# Altium footprint library TQFP-144.PcbLib: 1 footprints
Each footprint in its own frame and in the unit in brackets; x right, y up, seen from the top. Pads: shape width x height; smd on the part's side, far side on the other; paste and mask are expansions set on the pad; w line width, h text height; cw(c..) or ccw(c..) is an arc to the next point about the centre after c.
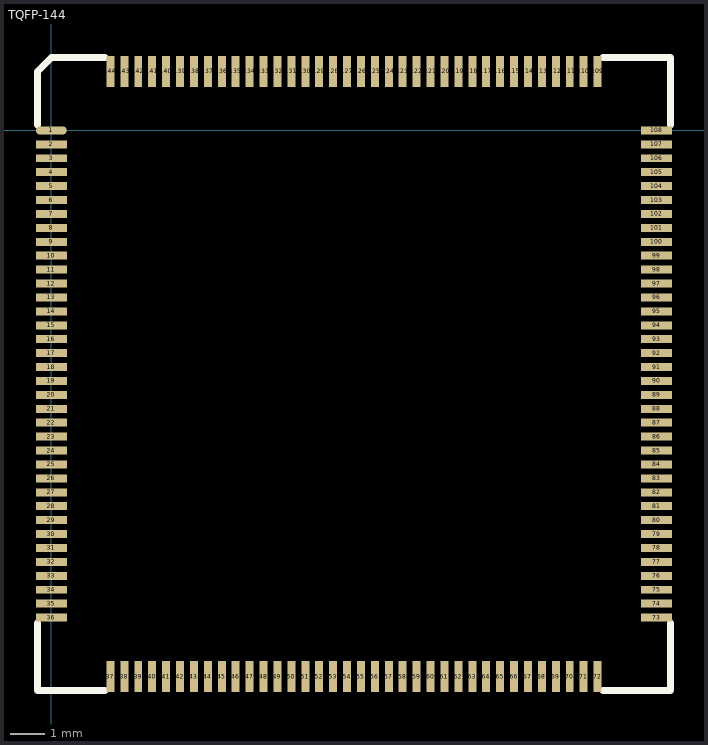
[diagram p0: the footprint, top view; thin cyan lines are the x and y axes]

## TQFP-144 [mil]
pads (144):
  oval 35x9 smd: 1(0,0)
  rect 35x9 smd: 2(0,-15.75) 3(0,-31.5) 4(0,-47.24) 5(0,-62.99) 6(0,-78.74) 7(0,-94.49) 8(0,-110.24) 9(0,-125.98) 10(0,-141.73) 11(0,-157.48) 12(0,-173.23) 13(0,-188.98) 14(0,-204.72) 15(0,-220.47) 16(0,-236.22) 17(0,-251.97) 18(0,-267.72) 19(0,-283.46) 20(0,-299.21) 21(0,-314.96) 22(0,-330.71) 23(0,-346.46) 24(0,-362.2) 25(0,-377.95) 26(0,-393.7) 27(0,-409.45) 28(0,-425.2) 29(0,-440.94) 30(0,-456.69) 31(0,-472.44) 32(0,-488.19) 33(0,-503.94) 34(0,-519.68) 35(0,-535.43) 36(0,-551.18) 73(685.04,-551.18) 74(685.04,-535.43) 75(685.04,-519.68) 76(685.04,-503.94) 77(685.04,-488.19) 78(685.04,-472.44) 79(685.04,-456.69) 80(685.04,-440.94) 81(685.04,-425.2) 82(685.04,-409.45) 83(685.04,-393.7) 84(685.04,-377.95) 85(685.04,-362.2) 86(685.04,-346.46) 87(685.04,-330.71) 88(685.04,-314.96) 89(685.04,-299.21) 90(685.04,-283.46) 91(685.04,-267.72) 92(685.04,-251.97) 93(685.04,-236.22) 94(685.04,-220.47) 95(685.04,-204.72) 96(685.04,-188.98) 97(685.04,-173.23) 98(685.04,-157.48) 99(685.04,-141.73) 100(685.04,-125.98) 101(685.04,-110.24) 102(685.04,-94.49) 103(685.04,-78.74) 104(685.04,-62.99) 105(685.04,-47.24) 106(685.04,-31.5) 107(685.04,-15.75) 108(685.04,0)
  rect 9x35 smd: 37(66.93,-618.11) 38(82.68,-618.11) 39(98.43,-618.11) 40(114.17,-618.11) 41(129.92,-618.11) 42(145.67,-618.11) 43(161.42,-618.11) 44(177.17,-618.11) 45(192.91,-618.11) 46(208.66,-618.11) 47(224.41,-618.11) 48(240.16,-618.11) 49(255.91,-618.11) 50(271.65,-618.11) 51(287.4,-618.11) 52(303.15,-618.11) 53(318.9,-618.11) 54(334.65,-618.11) 55(350.39,-618.11) 56(366.14,-618.11) 57(381.89,-618.11) 58(397.64,-618.11) 59(413.39,-618.11) 60(429.13,-618.11) 61(444.88,-618.11) 62(460.63,-618.11) 63(476.38,-618.11) 64(492.13,-618.11) 65(507.87,-618.11) 66(523.62,-618.11) 67(539.37,-618.11) 68(555.12,-618.11) 69(570.87,-618.11) 70(586.61,-618.11) 71(602.36,-618.11) 72(618.11,-618.11) 109(618.11,66.93) 110(602.36,66.93) 111(586.61,66.93) 112(570.87,66.93) 113(555.12,66.93) 114(539.37,66.93) 115(523.62,66.93) 116(507.87,66.93) 117(492.13,66.93) 118(476.38,66.93) 119(460.63,66.93) 120(444.88,66.93) 121(429.13,66.93) 122(413.39,66.93) 123(397.64,66.93) 124(381.89,66.93) 125(366.14,66.93) 126(350.39,66.93) 127(334.65,66.93) 128(318.9,66.93) 129(303.15,66.93) 130(287.4,66.93) 131(271.65,66.93) 132(255.91,66.93) 133(240.16,66.93) 134(224.41,66.93) 135(208.66,66.93) 136(192.91,66.93) 137(177.17,66.93) 138(161.42,66.93) 139(145.67,66.93) 140(129.92,66.93) 141(114.17,66.93) 142(98.43,66.93) 143(82.68,66.93) 144(66.93,66.93)
Top Overlay:
  lines w7.87: -15.75,-557.09 -15.75,-633.86 61.02,-633.86 ; -15.75,5.91 -15.75,66.93 0,82.68 61.02,82.68 ; 624.01,-633.86 700.79,-633.86 700.79,-557.09 ; 624.01,82.68 700.79,82.68 700.79,5.91
3D body: height 47.24, standoff 0, extent -11.74,-629.66 696.93,79